# Altium footprint library N-CHANNEL 30V 5.8A.PcbLib: 1 footprints
Each footprint in its own frame and in the unit in brackets; x right, y up, seen from the top. Pads: shape width x height; smd on the part's side, far side on the other; paste and mask are expansions set on the pad; w line width, h text height; cw(c..) or ccw(c..) is an arc to the next point about the centre after c.
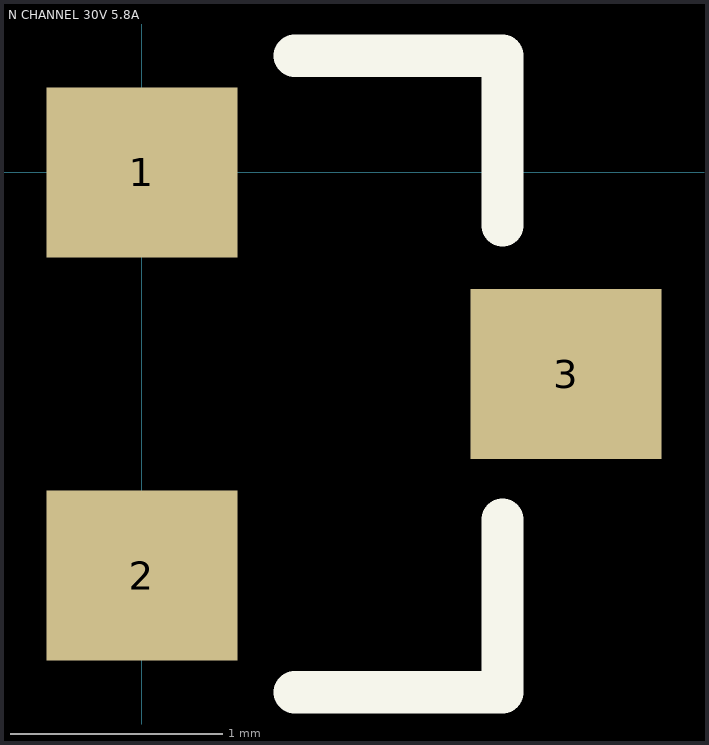
[diagram p0: the footprint, top view; thin cyan lines are the x and y axes]

## N CHANNEL 30V 5.8A [mm]
pads (3):
  rect 0.9x0.8 smd: 1(0,0) 2(0,-1.9) 3(2,-0.95)
Top Overlay:
  lines w0.2: 0.721,-2.45 1.7,-2.45 1.7,-1.636 ; 0.721,0.55 1.7,0.55 1.7,-0.25
3D body "FDN359AN.STEP": height 1.12, standoff 0, extent -0.341,-2.425 2.169,0.495